# Altium footprint library CC2530CC2531CC2540CC2541pcb封装.PcbLib: 61 footprints (part 1 of 4)
Each footprint in its own frame and in the unit in brackets; x right, y up, seen from the top. Pads: shape width x height; smd on the part's side, far side on the other; paste and mask are expansions set on the pad; w line width, h text height; cw(c..) or ccw(c..) is an arc to the next point about the centre after c.
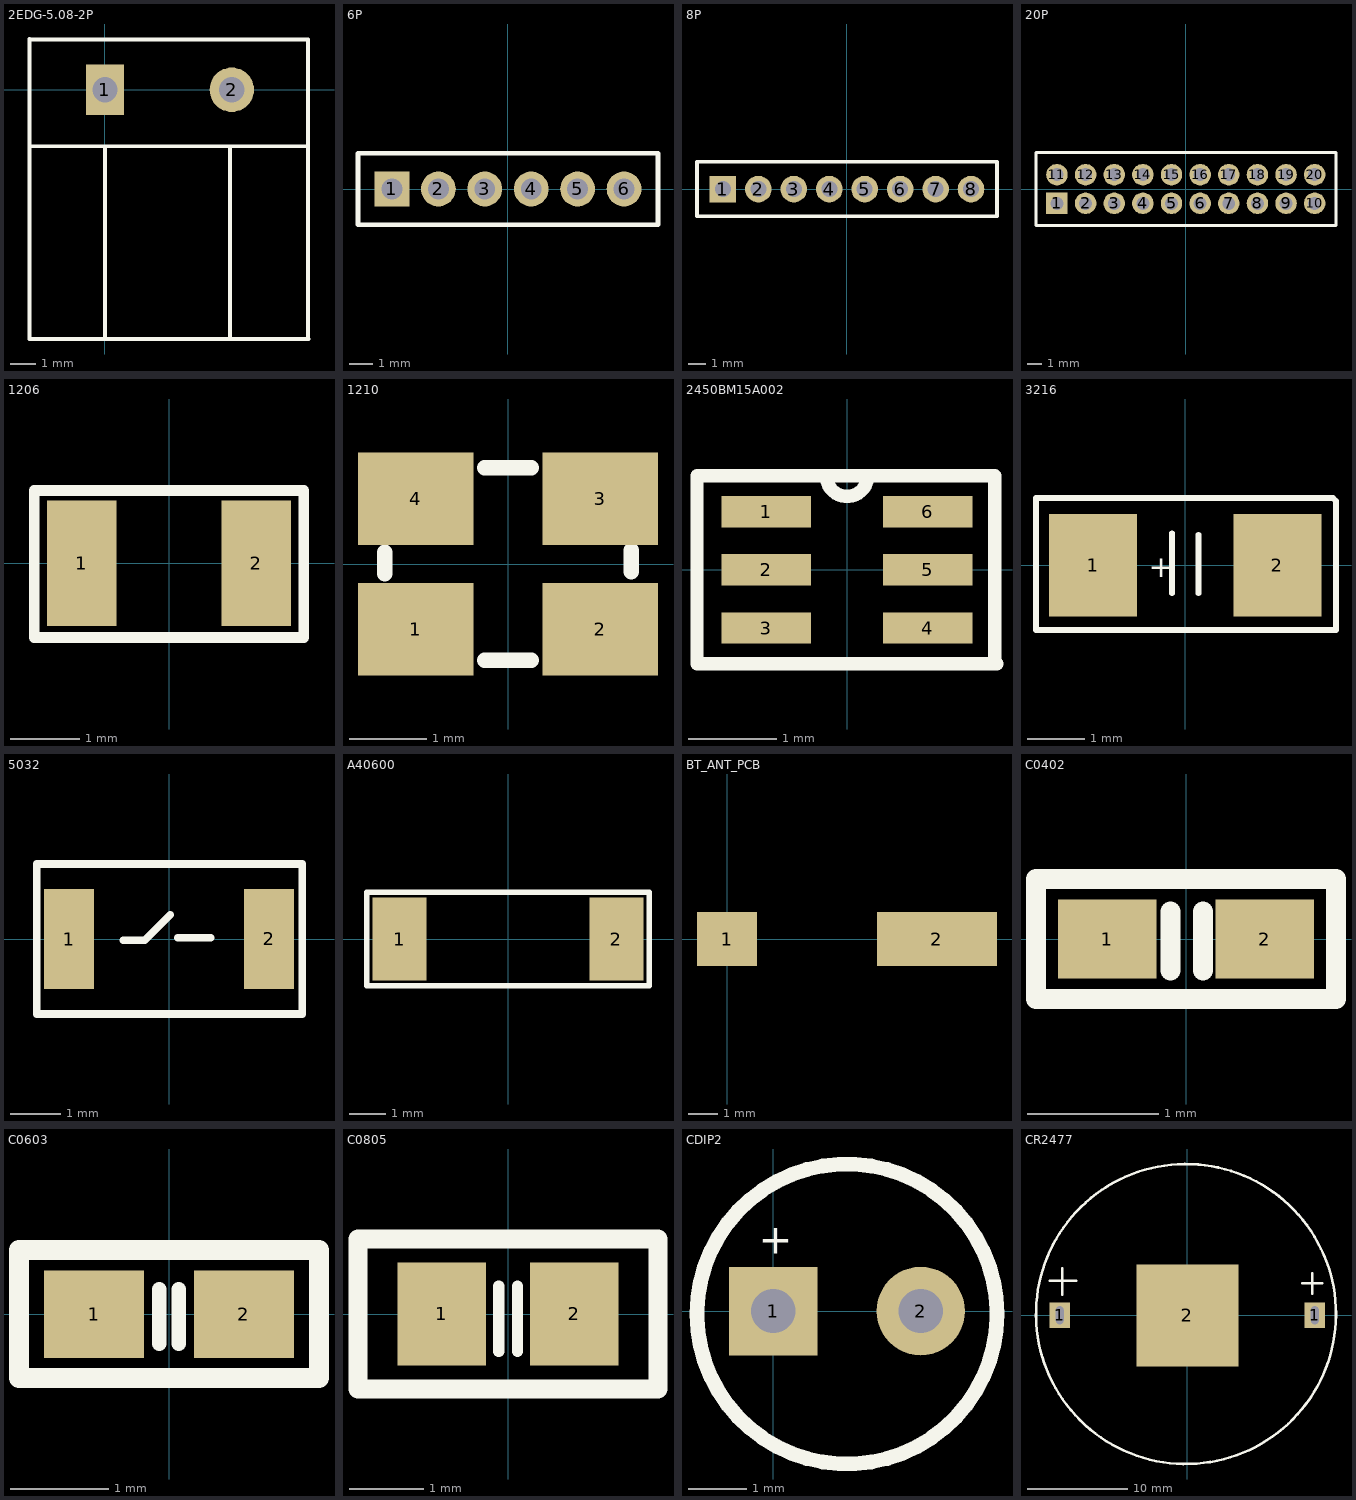
[diagram p0: the footprints below, top view; thin cyan lines are the x and y axes]

## 2EDG-5.08-2P [mil]
pads (2):
  rect 60x80 hole 40: 1(0,0)
  round 70 hole 40: 2(200,0)
Top Overlay:
  lines w6: -119,-89 317,-89 ; 0,-393 0,-89 197,-89 197,-393 ; -119,-393 321,-393 320,-392 320,79 -118,79 -119,80 -119,0 -119,-393

## 6P [mm]
pads (6):
  rect 1.5x1.5 hole 0.9: 1(-5,0)
  round 1.5 hole 0.9: 2(-3,0) 3(-1,0) 4(1,0) 5(3,0) 6(5,0)
Top Overlay:
  lines w0.2: -6.465,1.54 -6.465,-1.54 6.465,-1.54 6.465,1.54
  lines w0.203: -6.433,1.54 6.465,1.54

## 8P [mm]
pads (8):
  rect 1.5x1.5 hole 0.9: 1(-7,0)
  round 1.5 hole 0.9: 2(-5,0) 3(-3,0) 4(-1,0) 5(1,0) 6(3,0) 7(5,0) 8(7,0)
Top Overlay:
  lines w0.2: -8.465,1.54 -8.465,-1.54 8.465,-1.54 8.465,1.549
  lines w0.203: -8.433,1.54 8.465,1.54

## 20P [mm]
pads (20):
  rect 1.5x1.5 hole 0.9: 1(-9,-1)
  round 1.5 hole 0.9: 2(-7,-1) 3(-5,-1) 4(-3,-1) 5(-1,-1) 6(1,-1) 7(3,-1) 8(5,-1) 9(7,-1) 10(9,-1) 11(-9,1) 12(-7,1) 13(-5,1) 14(-3,1) 15(-1,1) 16(1,1) 17(3,1) 18(5,1) 19(7,1) 20(9,1)
Top Overlay:
  lines w0.2: -10.465,-2.54 -10.465,2.54 10.49,2.54 10.49,-2.54 -10.465,-2.54

## 1206 [mm]
pads (2):
  rect 1x1.8 smd: 1(-1.25,0) 2(1.25,0)
Top Overlay:
  lines w0.152: -1.93,-1.067 -1.93,1.041 -1.321,1.041 1.93,1.041 1.93,-1.067 -1.93,-1.067

## 1210 [mm]
pads (4):
  rect 1.5x1.2 smd: 1(-1.2,-0.85) 2(1.2,-0.85) 3(1.2,0.85) 4(-1.2,0.85)
Top Overlay:
  lines w0.2: -1.6,-0.127 -1.6,0.153 ; -0.305,-1.25 0.305,-1.25 ; -0.305,1.25 0.305,1.25 ; 1.6,-0.102 1.6,0.178

## 2450BM15A002 [mil]
pads (6):
  rect 40x14 smd: 1(-36,26) 2(-36,0) 3(-36,-26) 4(36,-26) 5(36,0) 6(36,26)
Top Overlay:
  lines w6: -9.22,42 ccw(c0,42) 9.22,42 ; -67,-42 -67,42 66,42 66,-41 67,-42 -67,-42

## 3216 [mil]
pads (2):
  rect 60x70 smd: 1(-63,0) 2(63,0)
Top Overlay:
  lines w4: -9,-19 -9,22 ; 9,-19 9,21 ; -102,-44 103,-44 103,44 101,46 -102,46 -102,-44
  text "+" at -25,-8 h15

## 5032 [mm]
height 4.32
pads (2):
  rect 1x2 smd: 1(-2,0) 2(2,0)
Top Overlay:
  lines w0.152: -0.914,-0.025 -0.483,-0.025 0.025,0.483 ; 0.178,0.025 0.838,0.025 ; -2.642,-1.5 2.667,-1.5 2.667,1.5 -2.642,1.5 -2.642,-1.5

## A40600 [mm]
pads (2):
  rect 1.5x2.3 smd: 1(-3,0) 2(3,0)
Top Overlay:
  lines w0.152: -3.912,-1.295 3.912,-1.295 3.912,1.295 -1.651,1.295 -3.226,1.295 -3.912,1.295 -3.912,-1.295

## BT_ANT_PCB [mil]
pads (2):
  rect 80x72 smd: 1(0,0)
  rect 160x72 smd: 2(280,0)

## C0402 [mm]
pads (2):
  rect 0.75x0.6 smd: 1(-0.6,0) 2(0.6,0)
Top Overlay:
  lines w0.152: -0.12,-0.24 -0.12,0.21 ; 0.13,-0.24 0.13,0.21 ; -1.143,-0.457 -1.143,0.457 1.143,0.457 1.143,-0.457 -1.143,-0.457

## C0603 [mil]
pads (2):
  rect 40x35 smd: 1(-29.92,0) 2(29.92,0)
Top Overlay:
  lines w5.91: -3.94,-11.81 -3.94,9.84 ; 3.94,-11.81 3.94,9.84
  lines w7.87: -60,-25.59 60,-25.59 60,25.59 -60,25.59 -60,-25.59

## C0805 [mm]
pads (2):
  rect 1.2x1.4 smd: 1(-0.9,0) 2(0.9,0)
Top Overlay:
  lines w0.152: -0.127,-0.508 -0.127,0.381 ; 0.127,-0.508 0.127,0.381
  lines w0.254: -2.032,-1.016 -2.032,1.016 2.032,1.016 2.032,-1.016 -2.032,-1.016

## CDIP2 [mil]
pads (2):
  rect 60x60 hole 30: 1(0,0)
  round 60 hole 30: 2(100,0)
Top Overlay:
  circle w10: c50,-2 r101.71
  text "+" at -10,39 h20

## CR2477 [mil]
pads (3):
  rect 80x100 hole 30 slot 70 at 90 deg: 1(-500,0) 1(500,0)
  rect 400x400 smd: 2(0,0)
Top Overlay:
  lines w10: -540,135 -435,135 ; -490,80 -490,185 ; 450,125 530,125 ; 490,85 490,165 490,125 ; 583.05,0.06 cw(c-5,5) 583.07,5